# EAGLE library part 68610914422 (library Eagle_FPC_CONNECTOR_AND_FFC_CAB (rev18c))
WR-FPC 1.00mm SMT ZIF Horizontal Bottom Contact, 9 Pins=>Code : Con_FPC_ZIF_1.00_68610914422 <http://katalog.we-online.de/media/images/eican/Con_FPC_ZIF_1.00_6861xx14422_pf2.jpg> Details see: http://katalog.we-online.de/en/em/686_1xx_144_22 Created 2014-07-09, Karrer Zheng 2014 (C) Würth Elektronik
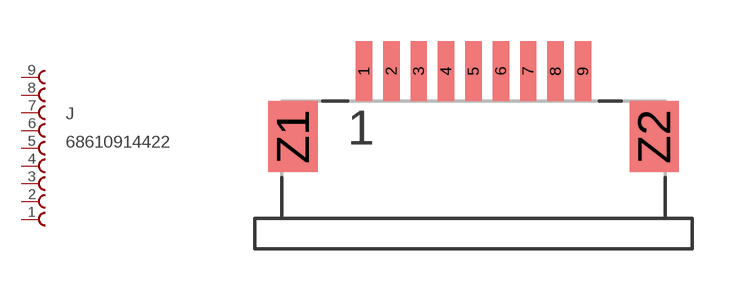
[diagram p4: symbol with the pads of 68610914422; footprint 68610914422]

Designator prefix J

## 68610914422  [68610914422]
1  9  pas
2  8  pas
3  7  pas
4  6  pas
5  5  pas
6  4  pas
7  3  pas
8  2  pas
9  1  pas

## Footprint 68610914422 (pad centres in mm)
WR-FPC 1.00mm SMT ZIF Horizontal Bottom Contact, 9 Pins
smd 0.6 x 2.2: 1 -4,2.4; 2 -3,2.4; 3 -2,2.4; 4 -1,2.4; 5 0,2.4; 6 1,2.4; 7 2,2.4; 8 3,2.4; 9 4,2.4
smd 1.8 x 2.6: Z1 -6.6,0; Z2 6.6,0